# EAGLE library part TCD2901D (library ICs)
Tri colour, 10k pixel/line, linear image sensor.
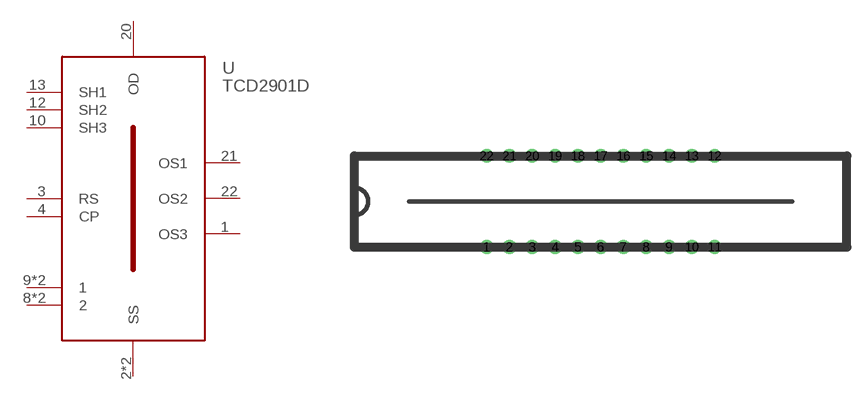
[diagram p49: symbol with the pads of WPID22-G-400-2.54D; footprint WPID22-G-400-2.54D]

Designator prefix U

## TCD2901D  [WPID22-G-400-2.54D]
1  OS3
2  SS
3  RS
4  CP
8  2
9  1
10  SH3
11  SS
12  SH2
13  SH1
14  1
15  2
20  OD
21  OS1
22  OS2

## Footprint WPID22-G-400-2.54D (pad centres in mm)
drill 0.8 pad 1.5: 1 -12.5,-5; 2 -10,-5; 3 -7.5,-5; 4 -5,-5; 5 -2.5,-5; 6 0,-5; 7 2.5,-5; 8 5,-5; 9 7.5,-5; 10 10,-5; 11 12.5,-5; 12 12.5,5; 13 10,5; 14 7.5,5; 15 5,5; 16 2.5,5; 17 0,5; 18 -2.5,5; 19 -5,5; 20 -7.5,5; 21 -10,5; 22 -12.5,5